# Altium integrated library Cap0805.IntLib: 3 symbols
Pins are listed as number, name and electrical type; pins without a type are passive.

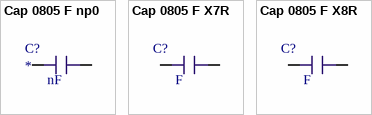
[diagram p0: symbols Cap 0805 F np0 to Cap 0805 F X8R]

## Cap 0805 F np0
designator C?  value nF
Ceramic capacitor 0805 V np0 % μF; Type: 0805; Dielectric: np0; Tolerance: *; Voltage: *
footprint CAP0805
pins: 1, 2

## Cap 0805 F X7R
designator C?  value F  (hidden comment: *)
Ceramic capacitor 0805 V np0 % μF; Dielectric: X7R; Type: 0805; Tolerance: *; Voltage: *
footprint CAP0805
pins: 1, 2

## Cap 0805 F X8R
designator C?  value F  (hidden comment: *)
Ceramic capacitor 0805 V np0 % μF; Dielectric: X8R; Type: 0805; Tolerance: *; Voltage: *
footprint CAP0805
pins: 1, 2